# Altium footprint library Res_PcbLib.PcbLib: 22 footprints (part 2 of 2)
Each footprint in its own frame and in the unit in brackets; x right, y up, seen from the top. Pads: shape width x height; smd on the part's side, far side on the other; paste and mask are expansions set on the pad; w line width, h text height; cw(c..) or ccw(c..) is an arc to the next point about the centre after c.
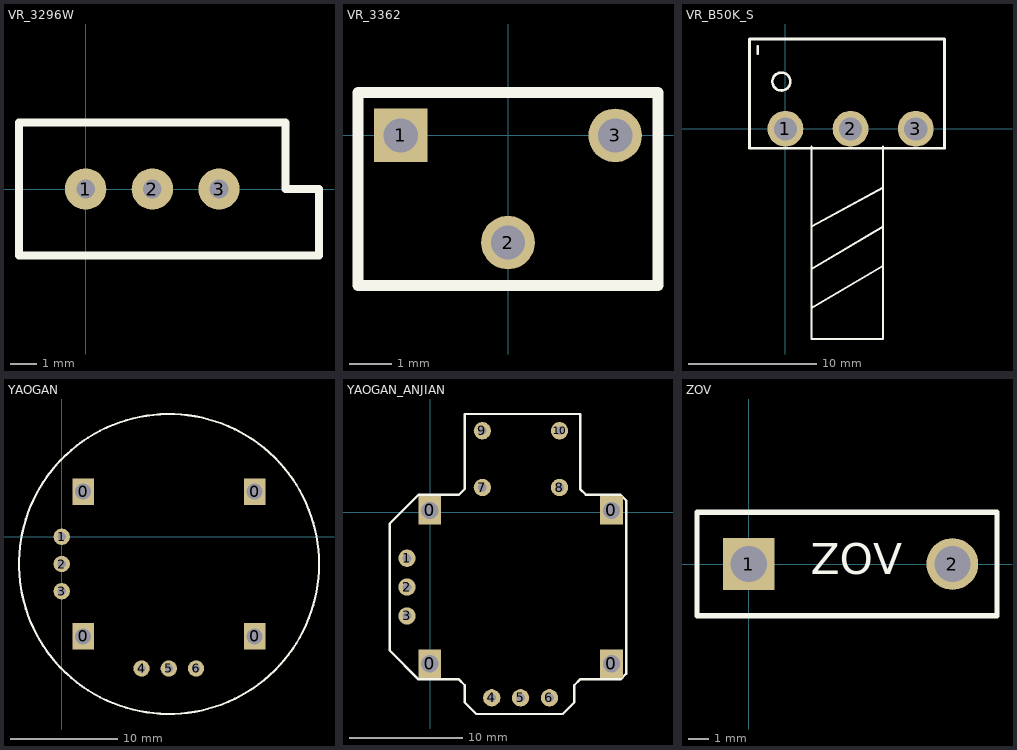
[diagram p1: the footprints below, top view; thin cyan lines are the x and y axes]

## VR_3296W [mil]
pads (3):
  round 62 hole 28: 1(0,0) 2(100,0) 3(200,0)
Top Overlay:
  lines w12: -100,-100 -100,100 300,100 300,0 350,0 350,-100 -100,-100

## VR_3362 [mil]
pads (3):
  rect 50x50 hole 32: 1(-100,0)
  round 50 hole 32: 2(0,-100) 3(100,0)
Top Overlay:
  lines w10: -140,-140 -140,-100 -140,40 140,40 140,-140 -140,-140

## VR_B50K_S [mm]
pads (3):
  round 2.8 hole 1.8: 1(0,0) 2(5.08,0) 3(10.16,0)
Top Overlay:
  circle w0.2: c-0.319,3.683 r0.7
  lines w0.152: 2.032,-13.97 7.62,-10.668 ; 2.032,-10.922 7.62,-7.62 ; 2.032,-7.62 7.62,-4.572 ; 2.032,-1.383 2.032,-16.383 7.62,-16.383 7.62,-1.383
  lines w0.2: -2.159,5.842 -2.159,6.442 ; -2.8,-1.513 12.4,-1.5 12.4,7 -2.8,7 -2.8,-1.513

## YAOGAN [mm]
pads (10):
  rect 2x2.5 hole 1.5: 0(2,-9.29) 0(2,4.21) 0(18,-9.29) 0(18,4.21)
  round 1.524 hole 0.762: 1(0,0) 2(0,-2.54) 3(0,-5.08) 4(7.46,-12.29) 5(10,-12.29) 6(12.54,-12.29)
Top Overlay:
  circle w0.2: c10.015,-2.54 r14

## YAOGAN_ANJIAN [mil]
pads (14):
  rect 78.74x98.43 hole 59.06: 0(-1.26,-525.75) 0(-1.26,5.75) 0(628.66,-525.75) 0(628.66,5.75)
  round 60 hole 30: 1(-80,-160) 2(-80,-260) 3(-80,-360) 4(213.7,-643.86) 5(313.7,-643.86) 6(413.7,-643.86) 7(181.1,85.04) 8(448.82,85.04) 9(181.1,281.89) 10(448.82,281.89)
Top Overlay:
  lines w7.87: -140,-480 -140,-40 -40,60 100,60 120,80 120,320 120,340 520,340 520,80 540,60 660,60 680,40 680,-560 660,-580 520,-580 500,-600 500,-620 500,-660 460,-700 160,-700 140,-680 120,-660 120,-600 100,-580 -40,-580 -140,-480

## ZOV [mil] "压敏电阻"
pads (2):
  rect 100x100 hole 70: 1(0,0)
  round 100 hole 70: 2(393.7,0)
Top Overlay:
  lines w10: -100,-100 400,-100 480,-100 480,100 400,100 -100,100 -100,-100
  text "ZOV" at 120,-20 h60